# Altium schematic symbol library PART-MECHANICAL.SchLib: 1 symbol
Pins are listed as number, name and electrical type; pins without a type are passive.

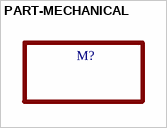
[diagram p0: symbol PART-MECHANICAL]

## PART-MECHANICAL
designator M?  (mechanical)